# EAGLE library part NEO-M8N-0 (library My_Library)
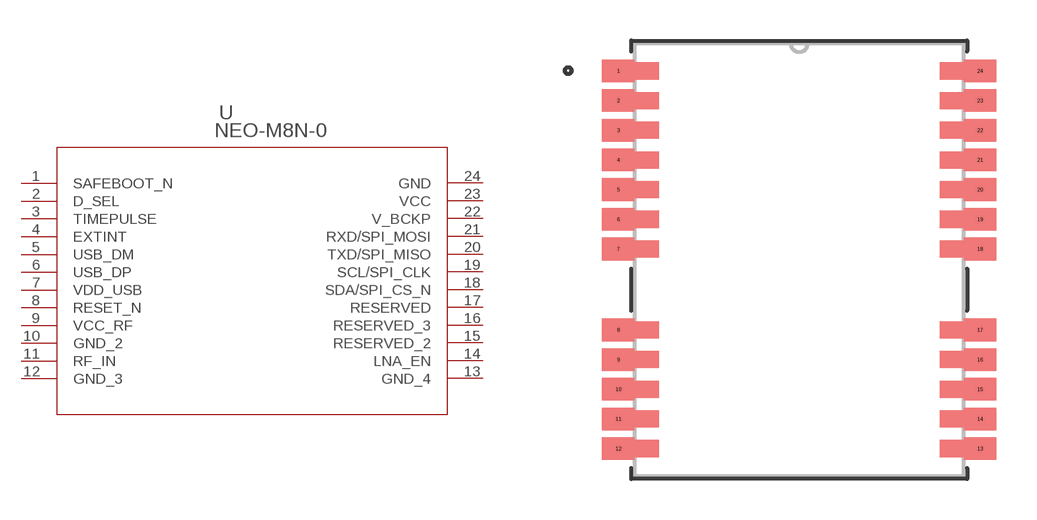
[diagram p5: symbol with the pads of MOD24_NEO-M8X_UBL; footprint MOD24_NEO-M8X_UBL]

Designator prefix U

## NEO-M8N-0 (COPYRIGHT: Copyright (C) 2024 Ultra Librarian. All rights reserved.; MANUFACTURER_PART_NUMBER: NEO-M8N-0; MFR_NAME: Ublox; TYPE: RF)  [MOD24_NEO-M8X_UBL]
1  SAFEBOOT_N  in
2  D_SEL  in
3  TIMEPULSE
4  EXTINT  in
5  USB_DM
6  USB_DP
7  VDD_USB  pwr
8  RESET_N  in
9  VCC_RF  pwr
10  GND_2  pas
11  RF_IN  in
12  GND_3  pas
13  GND_4  pas
14  LNA_EN  out
15  RESERVED_2  nc
16  RESERVED_3  nc
17  RESERVED  nc
18  SDA/SPI_CS_N
19  SCL/SPI_CLK
20  TXD/SPI_MISO  out
21  RXD/SPI_MOSI  in
22  V_BCKP  pwr
23  VCC  pwr
24  GND  pas

## Footprint MOD24_NEO-M8X_UBL (pad centres in mm)
smd 0.127 x 0.127: 1 -6.699,7; 2 -6.699,5.9; 3 -6.699,4.8; 4 -6.699,3.7; 5 -6.699,2.6; 6 -6.699,1.5; 7 -6.699,0.4; 8 -6.699,-2.6; 9 -6.699,-3.7; 10 -6.699,-4.8; 11 -6.699,-5.9; 12 -6.699,-7; 13 6.699,-7; 14 6.699,-5.9; 15 6.699,-4.8; 16 6.699,-3.7; 17 6.699,-2.6; 18 6.699,0.4; 19 6.699,1.5; 20 6.699,2.6; 21 6.699,3.7; 22 6.699,4.8; 23 6.699,5.9; 24 6.699,7